# Altium footprint library Package_QFP.PcbLib: 99 footprints (part 1 of 7)
Each footprint in its own frame and in the unit in brackets; x right, y up, seen from the top. Pads: shape width x height; smd on the part's side, far side on the other; paste and mask are expansions set on the pad; w line width, h text height; cw(c..) or ccw(c..) is an arc to the next point about the centre after c.
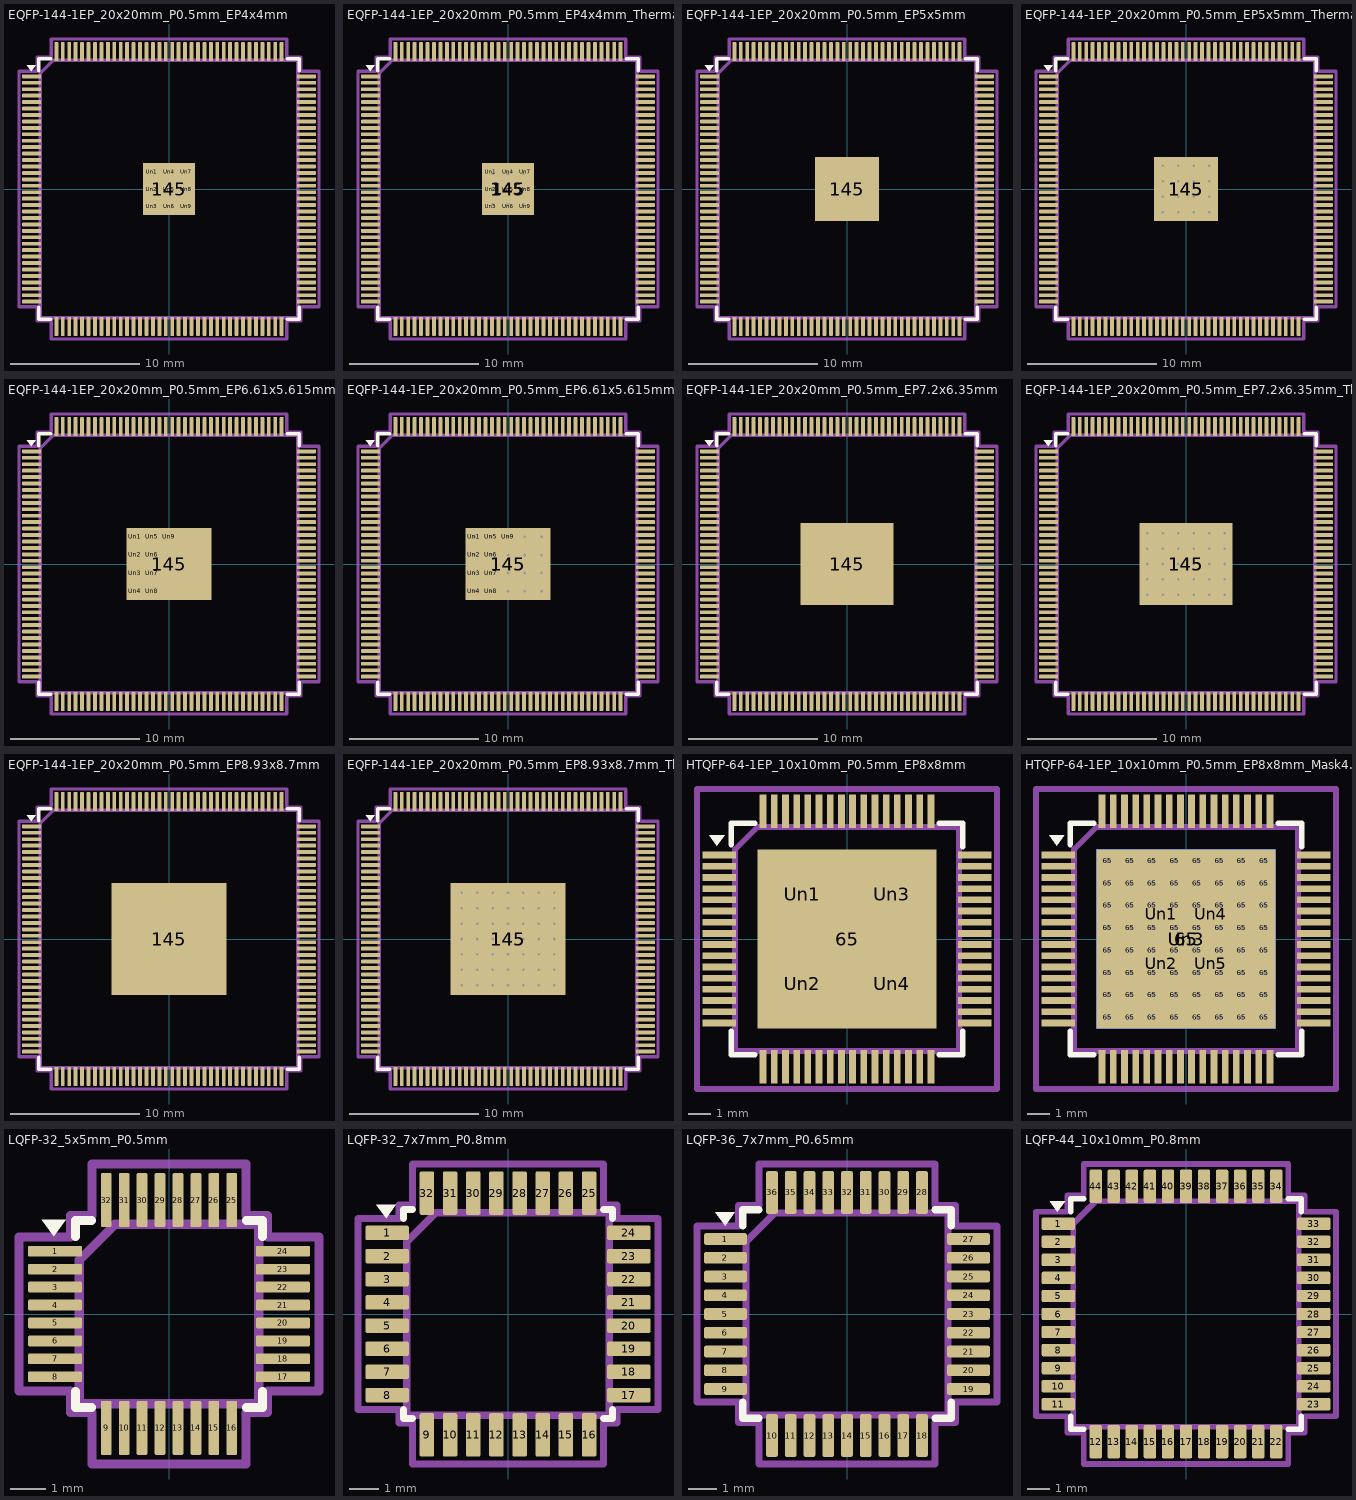
[diagram p0: the footprints below, top view; thin cyan lines are the x and y axes]

## EQFP-144-1EP_20x20mm_P0.5mm_EP4x4mm [mm]
pads (154):
  rrect25% 1.475x0.3 smd: 1(-10.663,8.75) 2(-10.663,8.25) 3(-10.663,7.75) 4(-10.663,7.25) 5(-10.663,6.75) 6(-10.663,6.25) 7(-10.663,5.75) 8(-10.663,5.25) 9(-10.663,4.75) 10(-10.663,4.25) 11(-10.663,3.75) 12(-10.663,3.25) 13(-10.663,2.75) 14(-10.663,2.25) 15(-10.663,1.75) 16(-10.663,1.25) 17(-10.663,0.75) 18(-10.663,0.25) 19(-10.663,-0.25) 20(-10.663,-0.75) 21(-10.663,-1.25) 22(-10.663,-1.75) 23(-10.663,-2.25) 24(-10.663,-2.75) 25(-10.663,-3.25) 26(-10.663,-3.75) 27(-10.663,-4.25) 28(-10.663,-4.75) 29(-10.663,-5.25) 30(-10.663,-5.75) 31(-10.663,-6.25) 32(-10.663,-6.75) 33(-10.663,-7.25) 34(-10.663,-7.75) 35(-10.663,-8.25) 36(-10.663,-8.75) 73(10.663,-8.75) 74(10.663,-8.25) 75(10.663,-7.75) 76(10.663,-7.25) 77(10.663,-6.75) 78(10.663,-6.25) 79(10.663,-5.75) 80(10.663,-5.25) 81(10.663,-4.75) 82(10.663,-4.25) 83(10.663,-3.75) 84(10.663,-3.25) 85(10.663,-2.75) 86(10.663,-2.25) 87(10.663,-1.75) 88(10.663,-1.25) 89(10.663,-0.75) 90(10.663,-0.25) 91(10.663,0.25) 92(10.663,0.75) 93(10.663,1.25) 94(10.663,1.75) 95(10.663,2.25) 96(10.663,2.75) 97(10.663,3.25) 98(10.663,3.75) 99(10.663,4.25) 100(10.663,4.75) 101(10.663,5.25) 102(10.663,5.75) 103(10.663,6.25) 104(10.663,6.75) 105(10.663,7.25) 106(10.663,7.75) 107(10.663,8.25) 108(10.663,8.75)
  rrect25% 0.3x1.475 smd: 37(-8.75,-10.663) 38(-8.25,-10.663) 39(-7.75,-10.663) 40(-7.25,-10.663) 41(-6.75,-10.663) 42(-6.25,-10.663) 43(-5.75,-10.663) 44(-5.25,-10.663) 45(-4.75,-10.663) 46(-4.25,-10.663) 47(-3.75,-10.663) 48(-3.25,-10.663) 49(-2.75,-10.663) 50(-2.25,-10.663) 51(-1.75,-10.663) 52(-1.25,-10.663) 53(-0.75,-10.663) 54(-0.25,-10.663) 55(0.25,-10.663) 56(0.75,-10.663) 57(1.25,-10.663) 58(1.75,-10.663) 59(2.25,-10.663) 60(2.75,-10.663) 61(3.25,-10.663) 62(3.75,-10.663) 63(4.25,-10.663) 64(4.75,-10.663) 65(5.25,-10.663) 66(5.75,-10.663) 67(6.25,-10.663) 68(6.75,-10.663) 69(7.25,-10.663) 70(7.75,-10.663) 71(8.25,-10.663) 72(8.75,-10.663) 109(8.75,10.663) 110(8.25,10.663) 111(7.75,10.663) 112(7.25,10.663) 113(6.75,10.663) 114(6.25,10.663) 115(5.75,10.663) 116(5.25,10.663) 117(4.75,10.663) 118(4.25,10.663) 119(3.75,10.663) 120(3.25,10.663) 121(2.75,10.663) 122(2.25,10.663) 123(1.75,10.663) 124(1.25,10.663) 125(0.75,10.663) 126(0.25,10.663) 127(-0.25,10.663) 128(-0.75,10.663) 129(-1.25,10.663) 130(-1.75,10.663) 131(-2.25,10.663) 132(-2.75,10.663) 133(-3.25,10.663) 134(-3.75,10.663) 135(-4.25,10.663) 136(-4.75,10.663) 137(-5.25,10.663) 138(-5.75,10.663) 139(-6.25,10.663) 140(-6.75,10.663) 141(-7.25,10.663) 142(-7.75,10.663) 143(-8.25,10.663) 144(-8.75,10.663)
  rect 4x4 smd: 145(0,0)
  rrect23% 1.07x1.07 on Top Paste: Un1(-1.33,1.33) Un2(-1.33,0) Un3(-1.33,-1.33) Un4(0,1.33) Un5(0,0) Un6(0,-1.33) Un7(1.33,1.33) Un8(1.33,0) Un9(1.33,-1.33)
F.SilkS:
  region: -10.7,9.16 -11.04,9.63 -10.36,9.63
  lines w0.254: -10.11,-9.16 -10.11,-10.11 -9.16,-10.11 ; -10.11,9.16 -10.11,10.11 -9.16,10.11 ; 9.16,-10.11 10.11,-10.11 10.11,-9.16 ; 9.16,10.11 10.11,10.11 10.11,9.16
Top Assembly:
  lines w0.254: -10,-10 -10,9 -9,10 10,10 10,-10 -10,-10
  text "'.Designator'" at -4.047,-0.84 h1
Top Courtyard:
  lines w0.254: -11.65,-9.15 -11.65,9.15 -10.25,9.15 -10.25,10.25 -9.15,10.25 -9.15,11.65 9.15,11.65 9.15,10.25 10.25,10.25 10.25,9.15 11.65,9.15 11.65,-9.15 10.25,-9.15 10.25,-10.25 9.15,-10.25 9.15,-11.65 -9.15,-11.65 -9.15,-10.25 -10.25,-10.25 -10.25,-9.15 -11.65,-9.15
Top Designator:
  text ".Designator" at -7.618,-0.508 h1.52

## EQFP-144-1EP_20x20mm_P0.5mm_EP4x4mm_ThermalVias [mm]
pads (164):
  rrect25% 1.475x0.3 smd: 1(-10.663,8.75) 2(-10.663,8.25) 3(-10.663,7.75) 4(-10.663,7.25) 5(-10.663,6.75) 6(-10.663,6.25) 7(-10.663,5.75) 8(-10.663,5.25) 9(-10.663,4.75) 10(-10.663,4.25) 11(-10.663,3.75) 12(-10.663,3.25) 13(-10.663,2.75) 14(-10.663,2.25) 15(-10.663,1.75) 16(-10.663,1.25) 17(-10.663,0.75) 18(-10.663,0.25) 19(-10.663,-0.25) 20(-10.663,-0.75) 21(-10.663,-1.25) 22(-10.663,-1.75) 23(-10.663,-2.25) 24(-10.663,-2.75) 25(-10.663,-3.25) 26(-10.663,-3.75) 27(-10.663,-4.25) 28(-10.663,-4.75) 29(-10.663,-5.25) 30(-10.663,-5.75) 31(-10.663,-6.25) 32(-10.663,-6.75) 33(-10.663,-7.25) 34(-10.663,-7.75) 35(-10.663,-8.25) 36(-10.663,-8.75) 73(10.663,-8.75) 74(10.663,-8.25) 75(10.663,-7.75) 76(10.663,-7.25) 77(10.663,-6.75) 78(10.663,-6.25) 79(10.663,-5.75) 80(10.663,-5.25) 81(10.663,-4.75) 82(10.663,-4.25) 83(10.663,-3.75) 84(10.663,-3.25) 85(10.663,-2.75) 86(10.663,-2.25) 87(10.663,-1.75) 88(10.663,-1.25) 89(10.663,-0.75) 90(10.663,-0.25) 91(10.663,0.25) 92(10.663,0.75) 93(10.663,1.25) 94(10.663,1.75) 95(10.663,2.25) 96(10.663,2.75) 97(10.663,3.25) 98(10.663,3.75) 99(10.663,4.25) 100(10.663,4.75) 101(10.663,5.25) 102(10.663,5.75) 103(10.663,6.25) 104(10.663,6.75) 105(10.663,7.25) 106(10.663,7.75) 107(10.663,8.25) 108(10.663,8.75)
  rrect25% 0.3x1.475 smd: 37(-8.75,-10.663) 38(-8.25,-10.663) 39(-7.75,-10.663) 40(-7.25,-10.663) 41(-6.75,-10.663) 42(-6.25,-10.663) 43(-5.75,-10.663) 44(-5.25,-10.663) 45(-4.75,-10.663) 46(-4.25,-10.663) 47(-3.75,-10.663) 48(-3.25,-10.663) 49(-2.75,-10.663) 50(-2.25,-10.663) 51(-1.75,-10.663) 52(-1.25,-10.663) 53(-0.75,-10.663) 54(-0.25,-10.663) 55(0.25,-10.663) 56(0.75,-10.663) 57(1.25,-10.663) 58(1.75,-10.663) 59(2.25,-10.663) 60(2.75,-10.663) 61(3.25,-10.663) 62(3.75,-10.663) 63(4.25,-10.663) 64(4.75,-10.663) 65(5.25,-10.663) 66(5.75,-10.663) 67(6.25,-10.663) 68(6.75,-10.663) 69(7.25,-10.663) 70(7.75,-10.663) 71(8.25,-10.663) 72(8.75,-10.663) 109(8.75,10.663) 110(8.25,10.663) 111(7.75,10.663) 112(7.25,10.663) 113(6.75,10.663) 114(6.25,10.663) 115(5.75,10.663) 116(5.25,10.663) 117(4.75,10.663) 118(4.25,10.663) 119(3.75,10.663) 120(3.25,10.663) 121(2.75,10.663) 122(2.25,10.663) 123(1.75,10.663) 124(1.25,10.663) 125(0.75,10.663) 126(0.25,10.663) 127(-0.25,10.663) 128(-0.75,10.663) 129(-1.25,10.663) 130(-1.75,10.663) 131(-2.25,10.663) 132(-2.75,10.663) 133(-3.25,10.663) 134(-3.75,10.663) 135(-4.25,10.663) 136(-4.75,10.663) 137(-5.25,10.663) 138(-5.75,10.663) 139(-6.25,10.663) 140(-6.75,10.663) 141(-7.25,10.663) 142(-7.75,10.663) 143(-8.25,10.663) 144(-8.75,10.663)
  round 0.5 hole 0.2: 145(-1.2,-1.2) 145(-1.2,0) 145(-1.2,1.2) 145(0,-1.2) 145(0,0) 145(0,1.2) 145(1.2,-1.2) 145(1.2,0) 145(1.2,1.2)
  rect 4x4 smd: 145(0,0)
  rect 2.9x2.9 smd far side: 145(0,0)
  rrect23% 1.07x1.07 on Top Paste: Un1(-1.33,1.33) Un2(-1.33,0) Un3(-1.33,-1.33) Un4(0,1.33) Un5(0,0) Un6(0,-1.33) Un7(1.33,1.33) Un8(1.33,0) Un9(1.33,-1.33)
F.SilkS:
  region: -10.7,9.16 -11.04,9.63 -10.36,9.63
  lines w0.254: -10.11,-9.16 -10.11,-10.11 -9.16,-10.11 ; -10.11,9.16 -10.11,10.11 -9.16,10.11 ; 9.16,-10.11 10.11,-10.11 10.11,-9.16 ; 9.16,10.11 10.11,10.11 10.11,9.16
Top Assembly:
  lines w0.254: -10,-10 10,-10 10,10 -9,10 -10,9 -10,-10
  text "'.Designator'" at -4.047,-0.84 h1
Top Courtyard:
  lines w0.254: -11.65,-9.15 -10.25,-9.15 -10.25,-10.25 -9.15,-10.25 -9.15,-11.65 9.15,-11.65 9.15,-10.25 10.25,-10.25 10.25,-9.15 11.65,-9.15 11.65,9.15 10.25,9.15 10.25,10.25 9.15,10.25 9.15,11.65 -9.15,11.65 -9.15,10.25 -10.25,10.25 -10.25,9.15 -11.65,9.15 -11.65,-9.15
Top Designator:
  text ".Designator" at -7.618,-0.508 h1.52

## EQFP-144-1EP_20x20mm_P0.5mm_EP5x5mm [mm]
pads (161):
  rrect25% 1.475x0.3 smd: 1(-10.663,8.75) 2(-10.663,8.25) 3(-10.663,7.75) 4(-10.663,7.25) 5(-10.663,6.75) 6(-10.663,6.25) 7(-10.663,5.75) 8(-10.663,5.25) 9(-10.663,4.75) 10(-10.663,4.25) 11(-10.663,3.75) 12(-10.663,3.25) 13(-10.663,2.75) 14(-10.663,2.25) 15(-10.663,1.75) 16(-10.663,1.25) 17(-10.663,0.75) 18(-10.663,0.25) 19(-10.663,-0.25) 20(-10.663,-0.75) 21(-10.663,-1.25) 22(-10.663,-1.75) 23(-10.663,-2.25) 24(-10.663,-2.75) 25(-10.663,-3.25) 26(-10.663,-3.75) 27(-10.663,-4.25) 28(-10.663,-4.75) 29(-10.663,-5.25) 30(-10.663,-5.75) 31(-10.663,-6.25) 32(-10.663,-6.75) 33(-10.663,-7.25) 34(-10.663,-7.75) 35(-10.663,-8.25) 36(-10.663,-8.75) 73(10.663,-8.75) 74(10.663,-8.25) 75(10.663,-7.75) 76(10.663,-7.25) 77(10.663,-6.75) 78(10.663,-6.25) 79(10.663,-5.75) 80(10.663,-5.25) 81(10.663,-4.75) 82(10.663,-4.25) 83(10.663,-3.75) 84(10.663,-3.25) 85(10.663,-2.75) 86(10.663,-2.25) 87(10.663,-1.75) 88(10.663,-1.25) 89(10.663,-0.75) 90(10.663,-0.25) 91(10.663,0.25) 92(10.663,0.75) 93(10.663,1.25) 94(10.663,1.75) 95(10.663,2.25) 96(10.663,2.75) 97(10.663,3.25) 98(10.663,3.75) 99(10.663,4.25) 100(10.663,4.75) 101(10.663,5.25) 102(10.663,5.75) 103(10.663,6.25) 104(10.663,6.75) 105(10.663,7.25) 106(10.663,7.75) 107(10.663,8.25) 108(10.663,8.75)
  rrect25% 0.3x1.475 smd: 37(-8.75,-10.663) 38(-8.25,-10.663) 39(-7.75,-10.663) 40(-7.25,-10.663) 41(-6.75,-10.663) 42(-6.25,-10.663) 43(-5.75,-10.663) 44(-5.25,-10.663) 45(-4.75,-10.663) 46(-4.25,-10.663) 47(-3.75,-10.663) 48(-3.25,-10.663) 49(-2.75,-10.663) 50(-2.25,-10.663) 51(-1.75,-10.663) 52(-1.25,-10.663) 53(-0.75,-10.663) 54(-0.25,-10.663) 55(0.25,-10.663) 56(0.75,-10.663) 57(1.25,-10.663) 58(1.75,-10.663) 59(2.25,-10.663) 60(2.75,-10.663) 61(3.25,-10.663) 62(3.75,-10.663) 63(4.25,-10.663) 64(4.75,-10.663) 65(5.25,-10.663) 66(5.75,-10.663) 67(6.25,-10.663) 68(6.75,-10.663) 69(7.25,-10.663) 70(7.75,-10.663) 71(8.25,-10.663) 72(8.75,-10.663) 109(8.75,10.663) 110(8.25,10.663) 111(7.75,10.663) 112(7.25,10.663) 113(6.75,10.663) 114(6.25,10.663) 115(5.75,10.663) 116(5.25,10.663) 117(4.75,10.663) 118(4.25,10.663) 119(3.75,10.663) 120(3.25,10.663) 121(2.75,10.663) 122(2.25,10.663) 123(1.75,10.663) 124(1.25,10.663) 125(0.75,10.663) 126(0.25,10.663) 127(-0.25,10.663) 128(-0.75,10.663) 129(-1.25,10.663) 130(-1.75,10.663) 131(-2.25,10.663) 132(-2.75,10.663) 133(-3.25,10.663) 134(-3.75,10.663) 135(-4.25,10.663) 136(-4.75,10.663) 137(-5.25,10.663) 138(-5.75,10.663) 139(-6.25,10.663) 140(-6.75,10.663) 141(-7.25,10.663) 142(-7.75,10.663) 143(-8.25,10.663) 144(-8.75,10.663)
  rect 5x5 smd: 145(0,0)
  rrect25% 1.01x1.01 on Top Paste: Un1(-1.875,1.875) Un2(-1.875,0.625) Un3(-1.875,-0.625) Un4(-1.875,-1.875) Un5(-0.625,1.875) Un6(-0.625,0.625) Un7(-0.625,-0.625) Un8(-0.625,-1.875) Un9(0.625,1.875) Un10(0.625,0.625) Un11(0.625,-0.625) Un12(0.625,-1.875) Un13(1.875,1.875) Un14(1.875,0.625) Un15(1.875,-0.625) Un16(1.875,-1.875)
F.SilkS:
  region: -10.7,9.16 -11.04,9.63 -10.36,9.63
  lines w0.254: -10.11,-9.16 -10.11,-10.11 -9.16,-10.11 ; -10.11,9.16 -10.11,10.11 -9.16,10.11 ; 9.16,-10.11 10.11,-10.11 10.11,-9.16 ; 9.16,10.11 10.11,10.11 10.11,9.16
Top Assembly:
  lines w0.254: -10,-10 10,-10 10,10 -9,10 -10,9 -10,-10
  text "'.Designator'" at -4.047,-0.84 h1
Top Courtyard:
  lines w0.254: -11.65,-9.15 -10.25,-9.15 -10.25,-10.25 -9.15,-10.25 -9.15,-11.65 9.15,-11.65 9.15,-10.25 10.25,-10.25 10.25,-9.15 11.65,-9.15 11.65,9.15 10.25,9.15 10.25,10.25 9.15,10.25 9.15,11.65 -9.15,11.65 -9.15,10.25 -10.25,10.25 -10.25,9.15 -11.65,9.15 -11.65,-9.15
Top Designator:
  text ".Designator" at -7.618,-0.508 h1.52

## EQFP-144-1EP_20x20mm_P0.5mm_EP5x5mm_ThermalVias [mm]
pads (178):
  rrect25% 1.475x0.3 smd: 1(-10.663,8.75) 2(-10.663,8.25) 3(-10.663,7.75) 4(-10.663,7.25) 5(-10.663,6.75) 6(-10.663,6.25) 7(-10.663,5.75) 8(-10.663,5.25) 9(-10.663,4.75) 10(-10.663,4.25) 11(-10.663,3.75) 12(-10.663,3.25) 13(-10.663,2.75) 14(-10.663,2.25) 15(-10.663,1.75) 16(-10.663,1.25) 17(-10.663,0.75) 18(-10.663,0.25) 19(-10.663,-0.25) 20(-10.663,-0.75) 21(-10.663,-1.25) 22(-10.663,-1.75) 23(-10.663,-2.25) 24(-10.663,-2.75) 25(-10.663,-3.25) 26(-10.663,-3.75) 27(-10.663,-4.25) 28(-10.663,-4.75) 29(-10.663,-5.25) 30(-10.663,-5.75) 31(-10.663,-6.25) 32(-10.663,-6.75) 33(-10.663,-7.25) 34(-10.663,-7.75) 35(-10.663,-8.25) 36(-10.663,-8.75) 73(10.663,-8.75) 74(10.663,-8.25) 75(10.663,-7.75) 76(10.663,-7.25) 77(10.663,-6.75) 78(10.663,-6.25) 79(10.663,-5.75) 80(10.663,-5.25) 81(10.663,-4.75) 82(10.663,-4.25) 83(10.663,-3.75) 84(10.663,-3.25) 85(10.663,-2.75) 86(10.663,-2.25) 87(10.663,-1.75) 88(10.663,-1.25) 89(10.663,-0.75) 90(10.663,-0.25) 91(10.663,0.25) 92(10.663,0.75) 93(10.663,1.25) 94(10.663,1.75) 95(10.663,2.25) 96(10.663,2.75) 97(10.663,3.25) 98(10.663,3.75) 99(10.663,4.25) 100(10.663,4.75) 101(10.663,5.25) 102(10.663,5.75) 103(10.663,6.25) 104(10.663,6.75) 105(10.663,7.25) 106(10.663,7.75) 107(10.663,8.25) 108(10.663,8.75)
  rrect25% 0.3x1.475 smd: 37(-8.75,-10.663) 38(-8.25,-10.663) 39(-7.75,-10.663) 40(-7.25,-10.663) 41(-6.75,-10.663) 42(-6.25,-10.663) 43(-5.75,-10.663) 44(-5.25,-10.663) 45(-4.75,-10.663) 46(-4.25,-10.663) 47(-3.75,-10.663) 48(-3.25,-10.663) 49(-2.75,-10.663) 50(-2.25,-10.663) 51(-1.75,-10.663) 52(-1.25,-10.663) 53(-0.75,-10.663) 54(-0.25,-10.663) 55(0.25,-10.663) 56(0.75,-10.663) 57(1.25,-10.663) 58(1.75,-10.663) 59(2.25,-10.663) 60(2.75,-10.663) 61(3.25,-10.663) 62(3.75,-10.663) 63(4.25,-10.663) 64(4.75,-10.663) 65(5.25,-10.663) 66(5.75,-10.663) 67(6.25,-10.663) 68(6.75,-10.663) 69(7.25,-10.663) 70(7.75,-10.663) 71(8.25,-10.663) 72(8.75,-10.663) 109(8.75,10.663) 110(8.25,10.663) 111(7.75,10.663) 112(7.25,10.663) 113(6.75,10.663) 114(6.25,10.663) 115(5.75,10.663) 116(5.25,10.663) 117(4.75,10.663) 118(4.25,10.663) 119(3.75,10.663) 120(3.25,10.663) 121(2.75,10.663) 122(2.25,10.663) 123(1.75,10.663) 124(1.25,10.663) 125(0.75,10.663) 126(0.25,10.663) 127(-0.25,10.663) 128(-0.75,10.663) 129(-1.25,10.663) 130(-1.75,10.663) 131(-2.25,10.663) 132(-2.75,10.663) 133(-3.25,10.663) 134(-3.75,10.663) 135(-4.25,10.663) 136(-4.75,10.663) 137(-5.25,10.663) 138(-5.75,10.663) 139(-6.25,10.663) 140(-6.75,10.663) 141(-7.25,10.663) 142(-7.75,10.663) 143(-8.25,10.663) 144(-8.75,10.663)
  round 0.5 hole 0.2: 145(-1.8,-1.8) 145(-1.8,-0.6) 145(-1.8,0.6) 145(-1.8,1.8) 145(-0.6,-1.8) 145(-0.6,-0.6) 145(-0.6,0.6) 145(-0.6,1.8) 145(0.6,-1.8) 145(0.6,-0.6) 145(0.6,0.6) 145(0.6,1.8) 145(1.8,-1.8) 145(1.8,-0.6) 145(1.8,0.6) 145(1.8,1.8)
  rect 5x5 smd: 145(0,0)
  rect 4.1x4.1 smd far side: 145(0,0)
  rrect25% 1.01x1.01 on Top Paste: Un1(-1.875,1.875) Un2(-1.875,0.625) Un3(-1.875,-0.625) Un4(-1.875,-1.875) Un5(-0.625,1.875) Un6(-0.625,0.625) Un7(-0.625,-0.625) Un8(-0.625,-1.875) Un9(0.625,1.875) Un10(0.625,0.625) Un11(0.625,-0.625) Un12(0.625,-1.875) Un13(1.875,1.875) Un14(1.875,0.625) Un15(1.875,-0.625) Un16(1.875,-1.875)
F.SilkS:
  region: -10.7,9.16 -11.04,9.63 -10.36,9.63
  lines w0.254: -10.11,-9.16 -10.11,-10.11 -9.16,-10.11 ; -10.11,9.16 -10.11,10.11 -9.16,10.11 ; 9.16,-10.11 10.11,-10.11 10.11,-9.16 ; 9.16,10.11 10.11,10.11 10.11,9.16
Top Assembly:
  lines w0.254: -10,-10 10,-10 10,10 -9,10 -10,9 -10,-10
  text "'.Designator'" at -4.047,-0.84 h1
Top Courtyard:
  lines w0.254: -11.65,-9.15 -10.25,-9.15 -10.25,-10.25 -9.15,-10.25 -9.15,-11.65 9.15,-11.65 9.15,-10.25 10.25,-10.25 10.25,-9.15 11.65,-9.15 11.65,9.15 10.25,9.15 10.25,10.25 9.15,10.25 9.15,11.65 -9.15,11.65 -9.15,10.25 -10.25,10.25 -10.25,9.15 -11.65,9.15 -11.65,-9.15
Top Designator:
  text ".Designator" at -7.618,-0.508 h1.52

## EQFP-144-1EP_20x20mm_P0.5mm_EP6.61x5.615mm [mm]
pads (165):
  rrect25% 1.475x0.3 smd: 1(-10.663,8.75) 2(-10.663,8.25) 3(-10.663,7.75) 4(-10.663,7.25) 5(-10.663,6.75) 6(-10.663,6.25) 7(-10.663,5.75) 8(-10.663,5.25) 9(-10.663,4.75) 10(-10.663,4.25) 11(-10.663,3.75) 12(-10.663,3.25) 13(-10.663,2.75) 14(-10.663,2.25) 15(-10.663,1.75) 16(-10.663,1.25) 17(-10.663,0.75) 18(-10.663,0.25) 19(-10.663,-0.25) 20(-10.663,-0.75) 21(-10.663,-1.25) 22(-10.663,-1.75) 23(-10.663,-2.25) 24(-10.663,-2.75) 25(-10.663,-3.25) 26(-10.663,-3.75) 27(-10.663,-4.25) 28(-10.663,-4.75) 29(-10.663,-5.25) 30(-10.663,-5.75) 31(-10.663,-6.25) 32(-10.663,-6.75) 33(-10.663,-7.25) 34(-10.663,-7.75) 35(-10.663,-8.25) 36(-10.663,-8.75) 73(10.663,-8.75) 74(10.663,-8.25) 75(10.663,-7.75) 76(10.663,-7.25) 77(10.663,-6.75) 78(10.663,-6.25) 79(10.663,-5.75) 80(10.663,-5.25) 81(10.663,-4.75) 82(10.663,-4.25) 83(10.663,-3.75) 84(10.663,-3.25) 85(10.663,-2.75) 86(10.663,-2.25) 87(10.663,-1.75) 88(10.663,-1.25) 89(10.663,-0.75) 90(10.663,-0.25) 91(10.663,0.25) 92(10.663,0.75) 93(10.663,1.25) 94(10.663,1.75) 95(10.663,2.25) 96(10.663,2.75) 97(10.663,3.25) 98(10.663,3.75) 99(10.663,4.25) 100(10.663,4.75) 101(10.663,5.25) 102(10.663,5.75) 103(10.663,6.25) 104(10.663,6.75) 105(10.663,7.25) 106(10.663,7.75) 107(10.663,8.25) 108(10.663,8.75)
  rrect25% 0.3x1.475 smd: 37(-8.75,-10.663) 38(-8.25,-10.663) 39(-7.75,-10.663) 40(-7.25,-10.663) 41(-6.75,-10.663) 42(-6.25,-10.663) 43(-5.75,-10.663) 44(-5.25,-10.663) 45(-4.75,-10.663) 46(-4.25,-10.663) 47(-3.75,-10.663) 48(-3.25,-10.663) 49(-2.75,-10.663) 50(-2.25,-10.663) 51(-1.75,-10.663) 52(-1.25,-10.663) 53(-0.75,-10.663) 54(-0.25,-10.663) 55(0.25,-10.663) 56(0.75,-10.663) 57(1.25,-10.663) 58(1.75,-10.663) 59(2.25,-10.663) 60(2.75,-10.663) 61(3.25,-10.663) 62(3.75,-10.663) 63(4.25,-10.663) 64(4.75,-10.663) 65(5.25,-10.663) 66(5.75,-10.663) 67(6.25,-10.663) 68(6.75,-10.663) 69(7.25,-10.663) 70(7.75,-10.663) 71(8.25,-10.663) 72(8.75,-10.663) 109(8.75,10.663) 110(8.25,10.663) 111(7.75,10.663) 112(7.25,10.663) 113(6.75,10.663) 114(6.25,10.663) 115(5.75,10.663) 116(5.25,10.663) 117(4.75,10.663) 118(4.25,10.663) 119(3.75,10.663) 120(3.25,10.663) 121(2.75,10.663) 122(2.25,10.663) 123(1.75,10.663) 124(1.25,10.663) 125(0.75,10.663) 126(0.25,10.663) 127(-0.25,10.663) 128(-0.75,10.663) 129(-1.25,10.663) 130(-1.75,10.663) 131(-2.25,10.663) 132(-2.75,10.663) 133(-3.25,10.663) 134(-3.75,10.663) 135(-4.25,10.663) 136(-4.75,10.663) 137(-5.25,10.663) 138(-5.75,10.663) 139(-6.25,10.663) 140(-6.75,10.663) 141(-7.25,10.663) 142(-7.75,10.663) 143(-8.25,10.663) 144(-8.75,10.663)
  rect 6.61x5.615 smd: 145(0,0)
  rrect23% 1.07x1.13 on Top Paste: Un1(-2.64,2.1) Un2(-2.64,0.7) Un3(-2.64,-0.7) Un4(-2.64,-2.1) Un5(-1.32,2.1) Un6(-1.32,0.7) Un7(-1.32,-0.7) Un8(-1.32,-2.1) Un9(0,2.1) Un10(0,0.7) Un11(0,-0.7) Un12(0,-2.1) Un13(1.32,2.1) Un14(1.32,0.7) Un15(1.32,-0.7) Un16(1.32,-2.1) Un17(2.64,2.1) Un18(2.64,0.7) Un19(2.64,-0.7) Un20(2.64,-2.1)
F.SilkS:
  region: -10.7,9.16 -11.04,9.63 -10.36,9.63
  lines w0.254: -10.11,-9.16 -10.11,-10.11 -9.16,-10.11 ; -10.11,9.16 -10.11,10.11 -9.16,10.11 ; 9.16,-10.11 10.11,-10.11 10.11,-9.16 ; 9.16,10.11 10.11,10.11 10.11,9.16
Top Assembly:
  lines w0.254: -10,-10 10,-10 10,10 -9,10 -10,9 -10,-10
  text "'.Designator'" at -4.047,-0.84 h1
Top Courtyard:
  lines w0.254: -11.65,-9.15 -10.25,-9.15 -10.25,-10.25 -9.15,-10.25 -9.15,-11.65 9.15,-11.65 9.15,-10.25 10.25,-10.25 10.25,-9.15 11.65,-9.15 11.65,9.15 10.25,9.15 10.25,10.25 9.15,10.25 9.15,11.65 -9.15,11.65 -9.15,10.25 -10.25,10.25 -10.25,9.15 -11.65,9.15 -11.65,-9.15
Top Designator:
  text ".Designator" at -7.618,-0.508 h1.52

## EQFP-144-1EP_20x20mm_P0.5mm_EP6.61x5.615mm_ThermalVias [mm]
pads (186):
  rrect25% 1.475x0.3 smd: 1(-10.663,8.75) 2(-10.663,8.25) 3(-10.663,7.75) 4(-10.663,7.25) 5(-10.663,6.75) 6(-10.663,6.25) 7(-10.663,5.75) 8(-10.663,5.25) 9(-10.663,4.75) 10(-10.663,4.25) 11(-10.663,3.75) 12(-10.663,3.25) 13(-10.663,2.75) 14(-10.663,2.25) 15(-10.663,1.75) 16(-10.663,1.25) 17(-10.663,0.75) 18(-10.663,0.25) 19(-10.663,-0.25) 20(-10.663,-0.75) 21(-10.663,-1.25) 22(-10.663,-1.75) 23(-10.663,-2.25) 24(-10.663,-2.75) 25(-10.663,-3.25) 26(-10.663,-3.75) 27(-10.663,-4.25) 28(-10.663,-4.75) 29(-10.663,-5.25) 30(-10.663,-5.75) 31(-10.663,-6.25) 32(-10.663,-6.75) 33(-10.663,-7.25) 34(-10.663,-7.75) 35(-10.663,-8.25) 36(-10.663,-8.75) 73(10.663,-8.75) 74(10.663,-8.25) 75(10.663,-7.75) 76(10.663,-7.25) 77(10.663,-6.75) 78(10.663,-6.25) 79(10.663,-5.75) 80(10.663,-5.25) 81(10.663,-4.75) 82(10.663,-4.25) 83(10.663,-3.75) 84(10.663,-3.25) 85(10.663,-2.75) 86(10.663,-2.25) 87(10.663,-1.75) 88(10.663,-1.25) 89(10.663,-0.75) 90(10.663,-0.25) 91(10.663,0.25) 92(10.663,0.75) 93(10.663,1.25) 94(10.663,1.75) 95(10.663,2.25) 96(10.663,2.75) 97(10.663,3.25) 98(10.663,3.75) 99(10.663,4.25) 100(10.663,4.75) 101(10.663,5.25) 102(10.663,5.75) 103(10.663,6.25) 104(10.663,6.75) 105(10.663,7.25) 106(10.663,7.75) 107(10.663,8.25) 108(10.663,8.75)
  rrect25% 0.3x1.475 smd: 37(-8.75,-10.663) 38(-8.25,-10.663) 39(-7.75,-10.663) 40(-7.25,-10.663) 41(-6.75,-10.663) 42(-6.25,-10.663) 43(-5.75,-10.663) 44(-5.25,-10.663) 45(-4.75,-10.663) 46(-4.25,-10.663) 47(-3.75,-10.663) 48(-3.25,-10.663) 49(-2.75,-10.663) 50(-2.25,-10.663) 51(-1.75,-10.663) 52(-1.25,-10.663) 53(-0.75,-10.663) 54(-0.25,-10.663) 55(0.25,-10.663) 56(0.75,-10.663) 57(1.25,-10.663) 58(1.75,-10.663) 59(2.25,-10.663) 60(2.75,-10.663) 61(3.25,-10.663) 62(3.75,-10.663) 63(4.25,-10.663) 64(4.75,-10.663) 65(5.25,-10.663) 66(5.75,-10.663) 67(6.25,-10.663) 68(6.75,-10.663) 69(7.25,-10.663) 70(7.75,-10.663) 71(8.25,-10.663) 72(8.75,-10.663) 109(8.75,10.663) 110(8.25,10.663) 111(7.75,10.663) 112(7.25,10.663) 113(6.75,10.663) 114(6.25,10.663) 115(5.75,10.663) 116(5.25,10.663) 117(4.75,10.663) 118(4.25,10.663) 119(3.75,10.663) 120(3.25,10.663) 121(2.75,10.663) 122(2.25,10.663) 123(1.75,10.663) 124(1.25,10.663) 125(0.75,10.663) 126(0.25,10.663) 127(-0.25,10.663) 128(-0.75,10.663) 129(-1.25,10.663) 130(-1.75,10.663) 131(-2.25,10.663) 132(-2.75,10.663) 133(-3.25,10.663) 134(-3.75,10.663) 135(-4.25,10.663) 136(-4.75,10.663) 137(-5.25,10.663) 138(-5.75,10.663) 139(-6.25,10.663) 140(-6.75,10.663) 141(-7.25,10.663) 142(-7.75,10.663) 143(-8.25,10.663) 144(-8.75,10.663)
  round 0.5 hole 0.2: 145(-2.6,-2.1) 145(-2.6,-0.7) 145(-2.6,0.7) 145(-2.6,2.1) 145(-1.3,-2.1) 145(-1.3,-0.7) 145(-1.3,0.7) 145(-1.3,2.1) 145(0,-2.1) 145(0,-0.7) 145(0,0.7) 145(0,2.1) 145(1.3,-2.1) 145(1.3,-0.7) 145(1.3,0.7) 145(1.3,2.1) 145(2.6,-2.1) 145(2.6,-0.7) 145(2.6,0.7) 145(2.6,2.1)
  rect 6.61x5.615 smd: 145(0,0)
  rect 5.7x4.7 smd far side: 145(0,0)
  rrect23% 1.07x1.13 on Top Paste: Un1(-2.64,2.1) Un2(-2.64,0.7) Un3(-2.64,-0.7) Un4(-2.64,-2.1) Un5(-1.32,2.1) Un6(-1.32,0.7) Un7(-1.32,-0.7) Un8(-1.32,-2.1) Un9(0,2.1) Un10(0,0.7) Un11(0,-0.7) Un12(0,-2.1) Un13(1.32,2.1) Un14(1.32,0.7) Un15(1.32,-0.7) Un16(1.32,-2.1) Un17(2.64,2.1) Un18(2.64,0.7) Un19(2.64,-0.7) Un20(2.64,-2.1)
F.SilkS:
  region: -10.7,9.16 -11.04,9.63 -10.36,9.63
  lines w0.254: -10.11,-9.16 -10.11,-10.11 -9.16,-10.11 ; -10.11,9.16 -10.11,10.11 -9.16,10.11 ; 9.16,-10.11 10.11,-10.11 10.11,-9.16 ; 9.16,10.11 10.11,10.11 10.11,9.16
Top Assembly:
  lines w0.254: -10,-10 10,-10 10,10 -9,10 -10,9 -10,-10
  text "'.Designator'" at -4.047,-0.84 h1
Top Courtyard:
  lines w0.254: -11.65,-9.15 -10.25,-9.15 -10.25,-10.25 -9.15,-10.25 -9.15,-11.65 9.15,-11.65 9.15,-10.25 10.25,-10.25 10.25,-9.15 11.65,-9.15 11.65,9.15 10.25,9.15 10.25,10.25 9.15,10.25 9.15,11.65 -9.15,11.65 -9.15,10.25 -10.25,10.25 -10.25,9.15 -11.65,9.15 -11.65,-9.15
Top Designator:
  text ".Designator" at -7.618,-0.508 h1.52

## EQFP-144-1EP_20x20mm_P0.5mm_EP7.2x6.35mm [mm]
pads (175):
  rrect25% 1.475x0.3 smd: 1(-10.663,8.75) 2(-10.663,8.25) 3(-10.663,7.75) 4(-10.663,7.25) 5(-10.663,6.75) 6(-10.663,6.25) 7(-10.663,5.75) 8(-10.663,5.25) 9(-10.663,4.75) 10(-10.663,4.25) 11(-10.663,3.75) 12(-10.663,3.25) 13(-10.663,2.75) 14(-10.663,2.25) 15(-10.663,1.75) 16(-10.663,1.25) 17(-10.663,0.75) 18(-10.663,0.25) 19(-10.663,-0.25) 20(-10.663,-0.75) 21(-10.663,-1.25) 22(-10.663,-1.75) 23(-10.663,-2.25) 24(-10.663,-2.75) 25(-10.663,-3.25) 26(-10.663,-3.75) 27(-10.663,-4.25) 28(-10.663,-4.75) 29(-10.663,-5.25) 30(-10.663,-5.75) 31(-10.663,-6.25) 32(-10.663,-6.75) 33(-10.663,-7.25) 34(-10.663,-7.75) 35(-10.663,-8.25) 36(-10.663,-8.75) 73(10.663,-8.75) 74(10.663,-8.25) 75(10.663,-7.75) 76(10.663,-7.25) 77(10.663,-6.75) 78(10.663,-6.25) 79(10.663,-5.75) 80(10.663,-5.25) 81(10.663,-4.75) 82(10.663,-4.25) 83(10.663,-3.75) 84(10.663,-3.25) 85(10.663,-2.75) 86(10.663,-2.25) 87(10.663,-1.75) 88(10.663,-1.25) 89(10.663,-0.75) 90(10.663,-0.25) 91(10.663,0.25) 92(10.663,0.75) 93(10.663,1.25) 94(10.663,1.75) 95(10.663,2.25) 96(10.663,2.75) 97(10.663,3.25) 98(10.663,3.75) 99(10.663,4.25) 100(10.663,4.75) 101(10.663,5.25) 102(10.663,5.75) 103(10.663,6.25) 104(10.663,6.75) 105(10.663,7.25) 106(10.663,7.75) 107(10.663,8.25) 108(10.663,8.75)
  rrect25% 0.3x1.475 smd: 37(-8.75,-10.663) 38(-8.25,-10.663) 39(-7.75,-10.663) 40(-7.25,-10.663) 41(-6.75,-10.663) 42(-6.25,-10.663) 43(-5.75,-10.663) 44(-5.25,-10.663) 45(-4.75,-10.663) 46(-4.25,-10.663) 47(-3.75,-10.663) 48(-3.25,-10.663) 49(-2.75,-10.663) 50(-2.25,-10.663) 51(-1.75,-10.663) 52(-1.25,-10.663) 53(-0.75,-10.663) 54(-0.25,-10.663) 55(0.25,-10.663) 56(0.75,-10.663) 57(1.25,-10.663) 58(1.75,-10.663) 59(2.25,-10.663) 60(2.75,-10.663) 61(3.25,-10.663) 62(3.75,-10.663) 63(4.25,-10.663) 64(4.75,-10.663) 65(5.25,-10.663) 66(5.75,-10.663) 67(6.25,-10.663) 68(6.75,-10.663) 69(7.25,-10.663) 70(7.75,-10.663) 71(8.25,-10.663) 72(8.75,-10.663) 109(8.75,10.663) 110(8.25,10.663) 111(7.75,10.663) 112(7.25,10.663) 113(6.75,10.663) 114(6.25,10.663) 115(5.75,10.663) 116(5.25,10.663) 117(4.75,10.663) 118(4.25,10.663) 119(3.75,10.663) 120(3.25,10.663) 121(2.75,10.663) 122(2.25,10.663) 123(1.75,10.663) 124(1.25,10.663) 125(0.75,10.663) 126(0.25,10.663) 127(-0.25,10.663) 128(-0.75,10.663) 129(-1.25,10.663) 130(-1.75,10.663) 131(-2.25,10.663) 132(-2.75,10.663) 133(-3.25,10.663) 134(-3.75,10.663) 135(-4.25,10.663) 136(-4.75,10.663) 137(-5.25,10.663) 138(-5.75,10.663) 139(-6.25,10.663) 140(-6.75,10.663) 141(-7.25,10.663) 142(-7.75,10.663) 143(-8.25,10.663) 144(-8.75,10.663)
  rect 7.2x6.35 smd: 145(0,0)
  rrect25% 0.97x1.02 on Top Paste: Un1(-3,2.54) Un2(-3,1.27) Un3(-3,0) Un4(-3,-1.27) Un5(-3,-2.54) Un6(-1.8,2.54) Un7(-1.8,1.27) Un8(-1.8,0) Un9(-1.8,-1.27) Un10(-1.8,-2.54) Un11(-0.6,2.54) Un12(-0.6,1.27) Un13(-0.6,0) Un14(-0.6,-1.27) Un15(-0.6,-2.54) Un16(0.6,2.54) Un17(0.6,1.27) Un18(0.6,0) Un19(0.6,-1.27) Un20(0.6,-2.54) Un21(1.8,2.54) Un22(1.8,1.27) Un23(1.8,0) Un24(1.8,-1.27) Un25(1.8,-2.54) Un26(3,2.54) Un27(3,1.27) Un28(3,0) Un29(3,-1.27) Un30(3,-2.54)
F.SilkS:
  region: -10.7,9.16 -11.04,9.63 -10.36,9.63
  lines w0.254: -10.11,-9.16 -10.11,-10.11 -9.16,-10.11 ; -10.11,9.16 -10.11,10.11 -9.16,10.11 ; 9.16,-10.11 10.11,-10.11 10.11,-9.16 ; 9.16,10.11 10.11,10.11 10.11,9.16
Top Assembly:
  lines w0.254: -10,-10 10,-10 10,10 -9,10 -10,9 -10,-10
  text "'.Designator'" at -4.047,-0.84 h1
Top Courtyard:
  lines w0.254: -11.65,-9.15 -10.25,-9.15 -10.25,-10.25 -9.15,-10.25 -9.15,-11.65 9.15,-11.65 9.15,-10.25 10.25,-10.25 10.25,-9.15 11.65,-9.15 11.65,9.15 10.25,9.15 10.25,10.25 9.15,10.25 9.15,11.65 -9.15,11.65 -9.15,10.25 -10.25,10.25 -10.25,9.15 -11.65,9.15 -11.65,-9.15
Top Designator:
  text ".Designator" at -7.618,-0.508 h1.52

## EQFP-144-1EP_20x20mm_P0.5mm_EP7.2x6.35mm_ThermalVias [mm]
pads (206):
  rrect25% 1.475x0.3 smd: 1(-10.663,8.75) 2(-10.663,8.25) 3(-10.663,7.75) 4(-10.663,7.25) 5(-10.663,6.75) 6(-10.663,6.25) 7(-10.663,5.75) 8(-10.663,5.25) 9(-10.663,4.75) 10(-10.663,4.25) 11(-10.663,3.75) 12(-10.663,3.25) 13(-10.663,2.75) 14(-10.663,2.25) 15(-10.663,1.75) 16(-10.663,1.25) 17(-10.663,0.75) 18(-10.663,0.25) 19(-10.663,-0.25) 20(-10.663,-0.75) 21(-10.663,-1.25) 22(-10.663,-1.75) 23(-10.663,-2.25) 24(-10.663,-2.75) 25(-10.663,-3.25) 26(-10.663,-3.75) 27(-10.663,-4.25) 28(-10.663,-4.75) 29(-10.663,-5.25) 30(-10.663,-5.75) 31(-10.663,-6.25) 32(-10.663,-6.75) 33(-10.663,-7.25) 34(-10.663,-7.75) 35(-10.663,-8.25) 36(-10.663,-8.75) 73(10.663,-8.75) 74(10.663,-8.25) 75(10.663,-7.75) 76(10.663,-7.25) 77(10.663,-6.75) 78(10.663,-6.25) 79(10.663,-5.75) 80(10.663,-5.25) 81(10.663,-4.75) 82(10.663,-4.25) 83(10.663,-3.75) 84(10.663,-3.25) 85(10.663,-2.75) 86(10.663,-2.25) 87(10.663,-1.75) 88(10.663,-1.25) 89(10.663,-0.75) 90(10.663,-0.25) 91(10.663,0.25) 92(10.663,0.75) 93(10.663,1.25) 94(10.663,1.75) 95(10.663,2.25) 96(10.663,2.75) 97(10.663,3.25) 98(10.663,3.75) 99(10.663,4.25) 100(10.663,4.75) 101(10.663,5.25) 102(10.663,5.75) 103(10.663,6.25) 104(10.663,6.75) 105(10.663,7.25) 106(10.663,7.75) 107(10.663,8.25) 108(10.663,8.75)
  rrect25% 0.3x1.475 smd: 37(-8.75,-10.663) 38(-8.25,-10.663) 39(-7.75,-10.663) 40(-7.25,-10.663) 41(-6.75,-10.663) 42(-6.25,-10.663) 43(-5.75,-10.663) 44(-5.25,-10.663) 45(-4.75,-10.663) 46(-4.25,-10.663) 47(-3.75,-10.663) 48(-3.25,-10.663) 49(-2.75,-10.663) 50(-2.25,-10.663) 51(-1.75,-10.663) 52(-1.25,-10.663) 53(-0.75,-10.663) 54(-0.25,-10.663) 55(0.25,-10.663) 56(0.75,-10.663) 57(1.25,-10.663) 58(1.75,-10.663) 59(2.25,-10.663) 60(2.75,-10.663) 61(3.25,-10.663) 62(3.75,-10.663) 63(4.25,-10.663) 64(4.75,-10.663) 65(5.25,-10.663) 66(5.75,-10.663) 67(6.25,-10.663) 68(6.75,-10.663) 69(7.25,-10.663) 70(7.75,-10.663) 71(8.25,-10.663) 72(8.75,-10.663) 109(8.75,10.663) 110(8.25,10.663) 111(7.75,10.663) 112(7.25,10.663) 113(6.75,10.663) 114(6.25,10.663) 115(5.75,10.663) 116(5.25,10.663) 117(4.75,10.663) 118(4.25,10.663) 119(3.75,10.663) 120(3.25,10.663) 121(2.75,10.663) 122(2.25,10.663) 123(1.75,10.663) 124(1.25,10.663) 125(0.75,10.663) 126(0.25,10.663) 127(-0.25,10.663) 128(-0.75,10.663) 129(-1.25,10.663) 130(-1.75,10.663) 131(-2.25,10.663) 132(-2.75,10.663) 133(-3.25,10.663) 134(-3.75,10.663) 135(-4.25,10.663) 136(-4.75,10.663) 137(-5.25,10.663) 138(-5.75,10.663) 139(-6.25,10.663) 140(-6.75,10.663) 141(-7.25,10.663) 142(-7.75,10.663) 143(-8.25,10.663) 144(-8.75,10.663)
  round 0.5 hole 0.2: 145(-3,-2.4) 145(-3,-1.2) 145(-3,0) 145(-3,1.2) 145(-3,2.4) 145(-1.8,-2.4) 145(-1.8,-1.2) 145(-1.8,0) 145(-1.8,1.2) 145(-1.8,2.4) 145(-0.6,-2.4) 145(-0.6,-1.2) 145(-0.6,0) 145(-0.6,1.2) 145(-0.6,2.4) 145(0.6,-2.4) 145(0.6,-1.2) 145(0.6,0) 145(0.6,1.2) 145(0.6,2.4) 145(1.8,-2.4) 145(1.8,-1.2) 145(1.8,0) 145(1.8,1.2) 145(1.8,2.4) 145(3,-2.4) 145(3,-1.2) 145(3,0) 145(3,1.2) 145(3,2.4)
  rect 7.2x6.35 smd: 145(0,0)
  rect 6.5x5.3 smd far side: 145(0,0)
  rrect25% 0.97x1.02 on Top Paste: Un1(-3,2.54) Un2(-3,1.27) Un3(-3,0) Un4(-3,-1.27) Un5(-3,-2.54) Un6(-1.8,2.54) Un7(-1.8,1.27) Un8(-1.8,0) Un9(-1.8,-1.27) Un10(-1.8,-2.54) Un11(-0.6,2.54) Un12(-0.6,1.27) Un13(-0.6,0) Un14(-0.6,-1.27) Un15(-0.6,-2.54) Un16(0.6,2.54) Un17(0.6,1.27) Un18(0.6,0) Un19(0.6,-1.27) Un20(0.6,-2.54) Un21(1.8,2.54) Un22(1.8,1.27) Un23(1.8,0) Un24(1.8,-1.27) Un25(1.8,-2.54) Un26(3,2.54) Un27(3,1.27) Un28(3,0) Un29(3,-1.27) Un30(3,-2.54)
F.SilkS:
  region: -10.7,9.16 -11.04,9.63 -10.36,9.63
  lines w0.254: -10.11,-9.16 -10.11,-10.11 -9.16,-10.11 ; -10.11,9.16 -10.11,10.11 -9.16,10.11 ; 9.16,-10.11 10.11,-10.11 10.11,-9.16 ; 9.16,10.11 10.11,10.11 10.11,9.16
Top Assembly:
  lines w0.254: -10,-10 10,-10 10,10 -9,10 -10,9 -10,-10
  text "'.Designator'" at -4.047,-0.84 h1
Top Courtyard:
  lines w0.254: -11.65,-9.15 -10.25,-9.15 -10.25,-10.25 -9.15,-10.25 -9.15,-11.65 9.15,-11.65 9.15,-10.25 10.25,-10.25 10.25,-9.15 11.65,-9.15 11.65,9.15 10.25,9.15 10.25,10.25 9.15,10.25 9.15,11.65 -9.15,11.65 -9.15,10.25 -10.25,10.25 -10.25,9.15 -11.65,9.15 -11.65,-9.15
Top Designator:
  text ".Designator" at -7.618,-0.508 h1.52

## EQFP-144-1EP_20x20mm_P0.5mm_EP8.93x8.7mm [mm]
pads (194):
  rrect25% 1.475x0.3 smd: 1(-10.663,8.75) 2(-10.663,8.25) 3(-10.663,7.75) 4(-10.663,7.25) 5(-10.663,6.75) 6(-10.663,6.25) 7(-10.663,5.75) 8(-10.663,5.25) 9(-10.663,4.75) 10(-10.663,4.25) 11(-10.663,3.75) 12(-10.663,3.25) 13(-10.663,2.75) 14(-10.663,2.25) 15(-10.663,1.75) 16(-10.663,1.25) 17(-10.663,0.75) 18(-10.663,0.25) 19(-10.663,-0.25) 20(-10.663,-0.75) 21(-10.663,-1.25) 22(-10.663,-1.75) 23(-10.663,-2.25) 24(-10.663,-2.75) 25(-10.663,-3.25) 26(-10.663,-3.75) 27(-10.663,-4.25) 28(-10.663,-4.75) 29(-10.663,-5.25) 30(-10.663,-5.75) 31(-10.663,-6.25) 32(-10.663,-6.75) 33(-10.663,-7.25) 34(-10.663,-7.75) 35(-10.663,-8.25) 36(-10.663,-8.75) 73(10.663,-8.75) 74(10.663,-8.25) 75(10.663,-7.75) 76(10.663,-7.25) 77(10.663,-6.75) 78(10.663,-6.25) 79(10.663,-5.75) 80(10.663,-5.25) 81(10.663,-4.75) 82(10.663,-4.25) 83(10.663,-3.75) 84(10.663,-3.25) 85(10.663,-2.75) 86(10.663,-2.25) 87(10.663,-1.75) 88(10.663,-1.25) 89(10.663,-0.75) 90(10.663,-0.25) 91(10.663,0.25) 92(10.663,0.75) 93(10.663,1.25) 94(10.663,1.75) 95(10.663,2.25) 96(10.663,2.75) 97(10.663,3.25) 98(10.663,3.75) 99(10.663,4.25) 100(10.663,4.75) 101(10.663,5.25) 102(10.663,5.75) 103(10.663,6.25) 104(10.663,6.75) 105(10.663,7.25) 106(10.663,7.75) 107(10.663,8.25) 108(10.663,8.75)
  rrect25% 0.3x1.475 smd: 37(-8.75,-10.663) 38(-8.25,-10.663) 39(-7.75,-10.663) 40(-7.25,-10.663) 41(-6.75,-10.663) 42(-6.25,-10.663) 43(-5.75,-10.663) 44(-5.25,-10.663) 45(-4.75,-10.663) 46(-4.25,-10.663) 47(-3.75,-10.663) 48(-3.25,-10.663) 49(-2.75,-10.663) 50(-2.25,-10.663) 51(-1.75,-10.663) 52(-1.25,-10.663) 53(-0.75,-10.663) 54(-0.25,-10.663) 55(0.25,-10.663) 56(0.75,-10.663) 57(1.25,-10.663) 58(1.75,-10.663) 59(2.25,-10.663) 60(2.75,-10.663) 61(3.25,-10.663) 62(3.75,-10.663) 63(4.25,-10.663) 64(4.75,-10.663) 65(5.25,-10.663) 66(5.75,-10.663) 67(6.25,-10.663) 68(6.75,-10.663) 69(7.25,-10.663) 70(7.75,-10.663) 71(8.25,-10.663) 72(8.75,-10.663) 109(8.75,10.663) 110(8.25,10.663) 111(7.75,10.663) 112(7.25,10.663) 113(6.75,10.663) 114(6.25,10.663) 115(5.75,10.663) 116(5.25,10.663) 117(4.75,10.663) 118(4.25,10.663) 119(3.75,10.663) 120(3.25,10.663) 121(2.75,10.663) 122(2.25,10.663) 123(1.75,10.663) 124(1.25,10.663) 125(0.75,10.663) 126(0.25,10.663) 127(-0.25,10.663) 128(-0.75,10.663) 129(-1.25,10.663) 130(-1.75,10.663) 131(-2.25,10.663) 132(-2.75,10.663) 133(-3.25,10.663) 134(-3.75,10.663) 135(-4.25,10.663) 136(-4.75,10.663) 137(-5.25,10.663) 138(-5.75,10.663) 139(-6.25,10.663) 140(-6.75,10.663) 141(-7.25,10.663) 142(-7.75,10.663) 143(-8.25,10.663) 144(-8.75,10.663)
  rect 8.93x8.7 smd: 145(0,0)
  rrect25% 1.03x1 on Top Paste: Un1(-3.84,3.72) Un2(-3.84,2.48) Un3(-3.84,1.24) Un4(-3.84,0) Un5(-3.84,-1.24) Un6(-3.84,-2.48) Un7(-3.84,-3.72) Un8(-2.56,3.72) Un9(-2.56,2.48) Un10(-2.56,1.24) Un11(-2.56,0) Un12(-2.56,-1.24) Un13(-2.56,-2.48) Un14(-2.56,-3.72) Un15(-1.28,3.72) Un16(-1.28,2.48) Un17(-1.28,1.24) Un18(-1.28,0) Un19(-1.28,-1.24) Un20(-1.28,-2.48) Un21(-1.28,-3.72) Un22(0,3.72) Un23(0,2.48) Un24(0,1.24) Un25(0,0) Un26(0,-1.24) Un27(0,-2.48) Un28(0,-3.72) Un29(1.28,3.72) Un30(1.28,2.48) Un31(1.28,1.24) Un32(1.28,0) Un33(1.28,-1.24) Un34(1.28,-2.48) Un35(1.28,-3.72) Un36(2.56,3.72) Un37(2.56,2.48) Un38(2.56,1.24) Un39(2.56,0) Un40(2.56,-1.24) Un41(2.56,-2.48) Un42(2.56,-3.72) Un43(3.84,3.72) Un44(3.84,2.48) Un45(3.84,1.24) Un46(3.84,0) Un47(3.84,-1.24) Un48(3.84,-2.48) Un49(3.84,-3.72)
F.SilkS:
  region: -10.7,9.16 -11.04,9.63 -10.36,9.63
  lines w0.254: -10.11,-9.16 -10.11,-10.11 -9.16,-10.11 ; -10.11,9.16 -10.11,10.11 -9.16,10.11 ; 9.16,-10.11 10.11,-10.11 10.11,-9.16 ; 9.16,10.11 10.11,10.11 10.11,9.16
Top Assembly:
  lines w0.254: -10,-10 10,-10 10,10 -9,10 -10,9 -10,-10
  text "'.Designator'" at -4.047,-0.84 h1
Top Courtyard:
  lines w0.254: -11.65,-9.15 -10.25,-9.15 -10.25,-10.25 -9.15,-10.25 -9.15,-11.65 9.15,-11.65 9.15,-10.25 10.25,-10.25 10.25,-9.15 11.65,-9.15 11.65,9.15 10.25,9.15 10.25,10.25 9.15,10.25 9.15,11.65 -9.15,11.65 -9.15,10.25 -10.25,10.25 -10.25,9.15 -11.65,9.15 -11.65,-9.15
Top Designator:
  text ".Designator" at -7.618,-0.508 h1.52

## EQFP-144-1EP_20x20mm_P0.5mm_EP8.93x8.7mm_ThermalVias [mm]
pads (244):
  rrect25% 1.475x0.3 smd: 1(-10.663,8.75) 2(-10.663,8.25) 3(-10.663,7.75) 4(-10.663,7.25) 5(-10.663,6.75) 6(-10.663,6.25) 7(-10.663,5.75) 8(-10.663,5.25) 9(-10.663,4.75) 10(-10.663,4.25) 11(-10.663,3.75) 12(-10.663,3.25) 13(-10.663,2.75) 14(-10.663,2.25) 15(-10.663,1.75) 16(-10.663,1.25) 17(-10.663,0.75) 18(-10.663,0.25) 19(-10.663,-0.25) 20(-10.663,-0.75) 21(-10.663,-1.25) 22(-10.663,-1.75) 23(-10.663,-2.25) 24(-10.663,-2.75) 25(-10.663,-3.25) 26(-10.663,-3.75) 27(-10.663,-4.25) 28(-10.663,-4.75) 29(-10.663,-5.25) 30(-10.663,-5.75) 31(-10.663,-6.25) 32(-10.663,-6.75) 33(-10.663,-7.25) 34(-10.663,-7.75) 35(-10.663,-8.25) 36(-10.663,-8.75) 73(10.663,-8.75) 74(10.663,-8.25) 75(10.663,-7.75) 76(10.663,-7.25) 77(10.663,-6.75) 78(10.663,-6.25) 79(10.663,-5.75) 80(10.663,-5.25) 81(10.663,-4.75) 82(10.663,-4.25) 83(10.663,-3.75) 84(10.663,-3.25) 85(10.663,-2.75) 86(10.663,-2.25) 87(10.663,-1.75) 88(10.663,-1.25) 89(10.663,-0.75) 90(10.663,-0.25) 91(10.663,0.25) 92(10.663,0.75) 93(10.663,1.25) 94(10.663,1.75) 95(10.663,2.25) 96(10.663,2.75) 97(10.663,3.25) 98(10.663,3.75) 99(10.663,4.25) 100(10.663,4.75) 101(10.663,5.25) 102(10.663,5.75) 103(10.663,6.25) 104(10.663,6.75) 105(10.663,7.25) 106(10.663,7.75) 107(10.663,8.25) 108(10.663,8.75)
  rrect25% 0.3x1.475 smd: 37(-8.75,-10.663) 38(-8.25,-10.663) 39(-7.75,-10.663) 40(-7.25,-10.663) 41(-6.75,-10.663) 42(-6.25,-10.663) 43(-5.75,-10.663) 44(-5.25,-10.663) 45(-4.75,-10.663) 46(-4.25,-10.663) 47(-3.75,-10.663) 48(-3.25,-10.663) 49(-2.75,-10.663) 50(-2.25,-10.663) 51(-1.75,-10.663) 52(-1.25,-10.663) 53(-0.75,-10.663) 54(-0.25,-10.663) 55(0.25,-10.663) 56(0.75,-10.663) 57(1.25,-10.663) 58(1.75,-10.663) 59(2.25,-10.663) 60(2.75,-10.663) 61(3.25,-10.663) 62(3.75,-10.663) 63(4.25,-10.663) 64(4.75,-10.663) 65(5.25,-10.663) 66(5.75,-10.663) 67(6.25,-10.663) 68(6.75,-10.663) 69(7.25,-10.663) 70(7.75,-10.663) 71(8.25,-10.663) 72(8.75,-10.663) 109(8.75,10.663) 110(8.25,10.663) 111(7.75,10.663) 112(7.25,10.663) 113(6.75,10.663) 114(6.25,10.663) 115(5.75,10.663) 116(5.25,10.663) 117(4.75,10.663) 118(4.25,10.663) 119(3.75,10.663) 120(3.25,10.663) 121(2.75,10.663) 122(2.25,10.663) 123(1.75,10.663) 124(1.25,10.663) 125(0.75,10.663) 126(0.25,10.663) 127(-0.25,10.663) 128(-0.75,10.663) 129(-1.25,10.663) 130(-1.75,10.663) 131(-2.25,10.663) 132(-2.75,10.663) 133(-3.25,10.663) 134(-3.75,10.663) 135(-4.25,10.663) 136(-4.75,10.663) 137(-5.25,10.663) 138(-5.75,10.663) 139(-6.25,10.663) 140(-6.75,10.663) 141(-7.25,10.663) 142(-7.75,10.663) 143(-8.25,10.663) 144(-8.75,10.663)
  round 0.5 hole 0.2: 145(-3.6,-3.6) 145(-3.6,-2.4) 145(-3.6,-1.2) 145(-3.6,0) 145(-3.6,1.2) 145(-3.6,2.4) 145(-3.6,3.6) 145(-2.4,-3.6) 145(-2.4,-2.4) 145(-2.4,-1.2) 145(-2.4,0) 145(-2.4,1.2) 145(-2.4,2.4) 145(-2.4,3.6) 145(-1.2,-3.6) 145(-1.2,-2.4) 145(-1.2,-1.2) 145(-1.2,0) 145(-1.2,1.2) 145(-1.2,2.4) 145(-1.2,3.6) 145(0,-3.6) 145(0,-2.4) 145(0,-1.2) 145(0,0) 145(0,1.2) 145(0,2.4) 145(0,3.6) 145(1.2,-3.6) 145(1.2,-2.4) 145(1.2,-1.2) 145(1.2,0) 145(1.2,1.2) 145(1.2,2.4) 145(1.2,3.6) 145(2.4,-3.6) 145(2.4,-2.4) 145(2.4,-1.2) 145(2.4,0) 145(2.4,1.2) 145(2.4,2.4) 145(2.4,3.6) 145(3.6,-3.6) 145(3.6,-2.4) 145(3.6,-1.2) 145(3.6,0) 145(3.6,1.2) 145(3.6,2.4) 145(3.6,3.6)
  rect 8.93x8.7 smd: 145(0,0)
  rect 7.7x7.7 smd far side: 145(0,0)
  rrect25% 1.03x1 on Top Paste: Un1(-3.84,3.72) Un2(-3.84,2.48) Un3(-3.84,1.24) Un4(-3.84,0) Un5(-3.84,-1.24) Un6(-3.84,-2.48) Un7(-3.84,-3.72) Un8(-2.56,3.72) Un9(-2.56,2.48) Un10(-2.56,1.24) Un11(-2.56,0) Un12(-2.56,-1.24) Un13(-2.56,-2.48) Un14(-2.56,-3.72) Un15(-1.28,3.72) Un16(-1.28,2.48) Un17(-1.28,1.24) Un18(-1.28,0) Un19(-1.28,-1.24) Un20(-1.28,-2.48) Un21(-1.28,-3.72) Un22(0,3.72) Un23(0,2.48) Un24(0,1.24) Un25(0,0) Un26(0,-1.24) Un27(0,-2.48) Un28(0,-3.72) Un29(1.28,3.72) Un30(1.28,2.48) Un31(1.28,1.24) Un32(1.28,0) Un33(1.28,-1.24) Un34(1.28,-2.48) Un35(1.28,-3.72) Un36(2.56,3.72) Un37(2.56,2.48) Un38(2.56,1.24) Un39(2.56,0) Un40(2.56,-1.24) Un41(2.56,-2.48) Un42(2.56,-3.72) Un43(3.84,3.72) Un44(3.84,2.48) Un45(3.84,1.24) Un46(3.84,0) Un47(3.84,-1.24) Un48(3.84,-2.48) Un49(3.84,-3.72)
F.SilkS:
  region: -10.7,9.16 -11.04,9.63 -10.36,9.63
  lines w0.254: -10.11,-9.16 -10.11,-10.11 -9.16,-10.11 ; -10.11,9.16 -10.11,10.11 -9.16,10.11 ; 9.16,-10.11 10.11,-10.11 10.11,-9.16 ; 9.16,10.11 10.11,10.11 10.11,9.16
Top Assembly:
  lines w0.254: -10,-10 10,-10 10,10 -9,10 -10,9 -10,-10
  text "'.Designator'" at -4.047,-0.84 h1
Top Courtyard:
  lines w0.254: -11.65,-9.15 -10.25,-9.15 -10.25,-10.25 -9.15,-10.25 -9.15,-11.65 9.15,-11.65 9.15,-10.25 10.25,-10.25 10.25,-9.15 11.65,-9.15 11.65,9.15 10.25,9.15 10.25,10.25 9.15,10.25 9.15,11.65 -9.15,11.65 -9.15,10.25 -10.25,10.25 -10.25,9.15 -11.65,9.15 -11.65,-9.15
Top Designator:
  text ".Designator" at -7.618,-0.508 h1.52

## HTQFP-64-1EP_10x10mm_P0.5mm_EP8x8mm [mm]
pads (69):
  rect 1.5x0.3 smd: 1(-5.7,3.75) 2(-5.7,3.25) 3(-5.7,2.75) 4(-5.7,2.25) 5(-5.7,1.75) 6(-5.7,1.25) 7(-5.7,0.75) 8(-5.7,0.25) 9(-5.7,-0.25) 10(-5.7,-0.75) 11(-5.7,-1.25) 12(-5.7,-1.75) 13(-5.7,-2.25) 14(-5.7,-2.75) 15(-5.7,-3.25) 16(-5.7,-3.75) 33(5.7,-3.75) 34(5.7,-3.25) 35(5.7,-2.75) 36(5.7,-2.25) 37(5.7,-1.75) 38(5.7,-1.25) 39(5.7,-0.75) 40(5.7,-0.25) 41(5.7,0.25) 42(5.7,0.75) 43(5.7,1.25) 44(5.7,1.75) 45(5.7,2.25) 46(5.7,2.75) 47(5.7,3.25) 48(5.7,3.75)
  rect 0.3x1.5 smd: 17(-3.75,-5.7) 18(-3.25,-5.7) 19(-2.75,-5.7) 20(-2.25,-5.7) 21(-1.75,-5.7) 22(-1.25,-5.7) 23(-0.75,-5.7) 24(-0.25,-5.7) 25(0.25,-5.7) 26(0.75,-5.7) 27(1.25,-5.7) 28(1.75,-5.7) 29(2.25,-5.7) 30(2.75,-5.7) 31(3.25,-5.7) 32(3.75,-5.7) 49(3.75,5.7) 50(3.25,5.7) 51(2.75,5.7) 52(2.25,5.7) 53(1.75,5.7) 54(1.25,5.7) 55(0.75,5.7) 56(0.25,5.7) 57(-0.25,5.7) 58(-0.75,5.7) 59(-1.25,5.7) 60(-1.75,5.7) 61(-2.25,5.7) 62(-2.75,5.7) 63(-3.25,5.7) 64(-3.75,5.7)
  rect 8x8 smd: 65(0,0)
  rect 3.2x3.2 on Top Paste: Un1(-2,2) Un2(-2,-2) Un3(2,2) Un4(2,-2)
F.SilkS:
  region: -5.81,4.17 -6.15,4.64 -5.47,4.64
  lines w0.254: -5.175,-4.125 -5.175,-5.175 -4.125,-5.175 ; -5.175,4.225 -5.175,5.175 -4.125,5.175 ; 4.125,-5.175 5.175,-5.175 5.175,-4.125 ; 4.125,5.175 5.175,5.175 5.175,4.125
Top Assembly:
  lines w0.254: -5,-5 5,-5 5,5 -4,5 -5,4 -5,-5
  text "'.Designator'" at -4.047,-0.84 h1
Top Courtyard:
  lines w0.254: -6.7,-6.7 6.7,-6.7 6.7,6.7 -6.7,6.7 -6.7,-6.7
Top Designator:
  text ".Designator" at -7.618,-0.508 h1.52

## HTQFP-64-1EP_10x10mm_P0.5mm_EP8x8mm_Mask4.4x4.4mm_ThermalVias [mm]
pads (135):
  rect 1.5x0.3 smd: 1(-5.7,3.75) 2(-5.7,3.25) 3(-5.7,2.75) 4(-5.7,2.25) 5(-5.7,1.75) 6(-5.7,1.25) 7(-5.7,0.75) 8(-5.7,0.25) 9(-5.7,-0.25) 10(-5.7,-0.75) 11(-5.7,-1.25) 12(-5.7,-1.75) 13(-5.7,-2.25) 14(-5.7,-2.75) 15(-5.7,-3.25) 16(-5.7,-3.75) 33(5.7,-3.75) 34(5.7,-3.25) 35(5.7,-2.75) 36(5.7,-2.25) 37(5.7,-1.75) 38(5.7,-1.25) 39(5.7,-0.75) 40(5.7,-0.25) 41(5.7,0.25) 42(5.7,0.75) 43(5.7,1.25) 44(5.7,1.75) 45(5.7,2.25) 46(5.7,2.75) 47(5.7,3.25) 48(5.7,3.75)
  rect 0.3x1.5 smd: 17(-3.75,-5.7) 18(-3.25,-5.7) 19(-2.75,-5.7) 20(-2.25,-5.7) 21(-1.75,-5.7) 22(-1.25,-5.7) 23(-0.75,-5.7) 24(-0.25,-5.7) 25(0.25,-5.7) 26(0.75,-5.7) 27(1.25,-5.7) 28(1.75,-5.7) 29(2.25,-5.7) 30(2.75,-5.7) 31(3.25,-5.7) 32(3.75,-5.7) 49(3.75,5.7) 50(3.25,5.7) 51(2.75,5.7) 52(2.25,5.7) 53(1.75,5.7) 54(1.25,5.7) 55(0.75,5.7) 56(0.25,5.7) 57(-0.25,5.7) 58(-0.75,5.7) 59(-1.25,5.7) 60(-1.75,5.7) 61(-2.25,5.7) 62(-2.75,5.7) 63(-3.25,5.7) 64(-3.75,5.7)
  round 0.5 hole 0.2: 65(-3.5,-3.5) 65(-3.5,-2.5) 65(-3.5,-1.5) 65(-3.5,-0.5) 65(-3.5,0.5) 65(-3.5,1.5) 65(-3.5,2.5) 65(-3.5,3.5) 65(-2.5,-3.5) 65(-2.5,-2.5) 65(-2.5,-1.5) 65(-2.5,-0.5) 65(-2.5,0.5) 65(-2.5,1.5) 65(-2.5,2.5) 65(-2.5,3.5) 65(-1.5,-3.5) 65(-1.5,-2.5) 65(-1.5,-1.5) 65(-1.5,-0.5) 65(-1.5,0.5) 65(-1.5,1.5) 65(-1.5,2.5) 65(-1.5,3.5) 65(-0.5,-3.5) 65(-0.5,-2.5) 65(-0.5,-1.5) 65(-0.5,-0.5) 65(-0.5,0.5) 65(-0.5,1.5) 65(-0.5,2.5) 65(-0.5,3.5) 65(0.5,-3.5) 65(0.5,-2.5) 65(0.5,-1.5) 65(0.5,-0.5) 65(0.5,0.5) 65(0.5,1.5) 65(0.5,2.5) 65(0.5,3.5) 65(1.5,-3.5) 65(1.5,-2.5) 65(1.5,-1.5) 65(1.5,-0.5) 65(1.5,0.5) 65(1.5,1.5) 65(1.5,2.5) 65(1.5,3.5) 65(2.5,-3.5) 65(2.5,-2.5) 65(2.5,-1.5) 65(2.5,-0.5) 65(2.5,0.5) 65(2.5,1.5) 65(2.5,2.5) 65(2.5,3.5) 65(3.5,-3.5) 65(3.5,-2.5) 65(3.5,-1.5) 65(3.5,-0.5) 65(3.5,0.5) 65(3.5,1.5) 65(3.5,2.5) 65(3.5,3.5)
  rect 8x8 smd: 65(0,0)
  rect 8x8 smd far side: 65(0,0)
  rect 1.75x1.75 on Top Paste: Un1(-1.1,1.1) Un2(-1.1,-1.1) Un4(1.1,1.1) Un5(1.1,-1.1)
  rect 4.4x4.4 on Top Solder: Un3(0,0)
F.SilkS:
  region: -5.77,4.17 -6.11,4.64 -5.43,4.64
  lines w0.254: -5.175,-4.125 -5.175,-5.175 -4.125,-5.175 ; -5.175,4.225 -5.175,5.175 -4.125,5.175 ; 4.125,-5.175 5.175,-5.175 5.175,-4.125 ; 4.125,5.175 5.175,5.175 5.175,4.125
Top Assembly:
  lines w0.254: -5,-5 5,-5 5,5 -4,5 -5,4 -5,-5
  text "'.Designator'" at -4.047,-0.84 h1
Top Courtyard:
  lines w0.254: -6.7,-6.7 6.7,-6.7 6.7,6.7 -6.7,6.7 -6.7,-6.7
Top Designator:
  text ".Designator" at -7.618,-0.508 h1.52

## LQFP-32_5x5mm_P0.5mm [mm]
pads (32):
  rrect25% 1.5x0.3 smd: 1(-3.175,1.75) 2(-3.175,1.25) 3(-3.175,0.75) 4(-3.175,0.25) 5(-3.175,-0.25) 6(-3.175,-0.75) 7(-3.175,-1.25) 8(-3.175,-1.75) 17(3.175,-1.75) 18(3.175,-1.25) 19(3.175,-0.75) 20(3.175,-0.25) 21(3.175,0.25) 22(3.175,0.75) 23(3.175,1.25) 24(3.175,1.75)
  rrect25% 0.3x1.5 smd: 9(-1.75,-3.175) 10(-1.25,-3.175) 11(-0.75,-3.175) 12(-0.25,-3.175) 13(0.25,-3.175) 14(0.75,-3.175) 15(1.25,-3.175) 16(1.75,-3.175) 25(1.75,3.175) 26(1.25,3.175) 27(0.75,3.175) 28(0.25,3.175) 29(-0.25,3.175) 30(-0.75,3.175) 31(-1.25,3.175) 32(-1.75,3.175)
F.SilkS:
  region: -3.213,2.16 -3.552,2.63 -2.873,2.63
  lines w0.254: -2.61,-2.16 -2.61,-2.61 -2.16,-2.61 ; -2.61,2.16 -2.61,2.61 -2.16,2.61 ; 2.16,-2.61 2.61,-2.61 2.61,-2.16 ; 2.16,2.61 2.61,2.61 2.61,2.16
Top Assembly:
  lines w0.254: -2.5,-2.5 2.5,-2.5 2.5,2.5 -1.5,2.5 -2.5,1.5 -2.5,-2.5
  text "'.Designator'" at -4.047,-0.84 h1
Top Courtyard:
  lines w0.254: -4.18,-2.15 -2.75,-2.15 -2.75,-2.75 -2.15,-2.75 -2.15,-4.18 2.15,-4.18 2.15,-2.75 2.75,-2.75 2.75,-2.15 4.18,-2.15 4.18,2.15 2.75,2.15 2.75,2.75 2.15,2.75 2.15,4.18 -2.15,4.18 -2.15,2.75 -2.75,2.75 -2.75,2.15 -4.18,2.15 -4.18,-2.15
Top Designator:
  text ".Designator" at -7.618,-0.508 h1.52

## LQFP-32_7x7mm_P0.8mm [mm]
pads (32):
  rrect25% 1.5x0.5 smd: 1(-4.175,2.8) 2(-4.175,2) 3(-4.175,1.2) 4(-4.175,0.4) 5(-4.175,-0.4) 6(-4.175,-1.2) 7(-4.175,-2) 8(-4.175,-2.8) 17(4.175,-2.8) 18(4.175,-2) 19(4.175,-1.2) 20(4.175,-0.4) 21(4.175,0.4) 22(4.175,1.2) 23(4.175,2) 24(4.175,2.8)
  rrect25% 0.5x1.5 smd: 9(-2.8,-4.175) 10(-2,-4.175) 11(-1.2,-4.175) 12(-0.4,-4.175) 13(0.4,-4.175) 14(1.2,-4.175) 15(2,-4.175) 16(2.8,-4.175) 25(2.8,4.175) 26(2,4.175) 27(1.2,4.175) 28(0.4,4.175) 29(-0.4,4.175) 30(-1.2,4.175) 31(-2,4.175) 32(-2.8,4.175)
F.SilkS:
  region: -4.213,3.31 -4.553,3.78 -3.872,3.78
  lines w0.254: -3.61,-3.31 -3.61,-3.61 -3.31,-3.61 ; -3.61,3.31 -3.61,3.61 -3.31,3.61 ; 3.31,-3.61 3.61,-3.61 3.61,-3.31 ; 3.31,3.61 3.61,3.61 3.61,3.31
Top Assembly:
  lines w0.254: -3.5,-3.5 3.5,-3.5 3.5,3.5 -2.5,3.5 -3.5,2.5 -3.5,-3.5
  text "'.Designator'" at -4.047,-0.84 h1
Top Courtyard:
  lines w0.254: -5.18,-3.3 -3.75,-3.3 -3.75,-3.75 -3.3,-3.75 -3.3,-5.18 3.3,-5.18 3.3,-3.75 3.75,-3.75 3.75,-3.3 5.18,-3.3 5.18,3.3 3.75,3.3 3.75,3.75 3.3,3.75 3.3,5.18 -3.3,5.18 -3.3,3.75 -3.75,3.75 -3.75,3.3 -5.18,3.3 -5.18,-3.3
Top Designator:
  text ".Designator" at -7.618,-0.508 h1.52

## LQFP-36_7x7mm_P0.65mm [mm]
pads (36):
  rrect25% 1.475x0.4 smd: 1(-4.213,2.6) 2(-4.213,1.95) 3(-4.213,1.3) 4(-4.213,0.65) 5(-4.213,0) 6(-4.213,-0.65) 7(-4.213,-1.3) 8(-4.213,-1.95) 9(-4.213,-2.6) 19(4.213,-2.6) 20(4.213,-1.95) 21(4.213,-1.3) 22(4.213,-0.65) 23(4.213,0) 24(4.213,0.65) 25(4.213,1.3) 26(4.213,1.95) 27(4.213,2.6)
  rrect25% 0.4x1.475 smd: 10(-2.6,-4.213) 11(-1.95,-4.213) 12(-1.3,-4.213) 13(-0.65,-4.213) 14(0,-4.213) 15(0.65,-4.213) 16(1.3,-4.213) 17(1.95,-4.213) 18(2.6,-4.213) 28(2.6,4.213) 29(1.95,4.213) 30(1.3,4.213) 31(0.65,4.213) 32(0,4.213) 33(-0.65,4.213) 34(-1.3,4.213) 35(-1.95,4.213) 36(-2.6,4.213)
F.SilkS:
  region: -4.225,3.06 -4.565,3.53 -3.885,3.53
  lines w0.254: -3.61,-3.06 -3.61,-3.61 -3.06,-3.61 ; -3.61,3.06 -3.61,3.61 -3.06,3.61 ; 3.06,-3.61 3.61,-3.61 3.61,-3.06 ; 3.06,3.61 3.61,3.61 3.61,3.06
Top Assembly:
  lines w0.254: -3.5,-3.5 3.5,-3.5 3.5,3.5 -2.5,3.5 -3.5,2.5 -3.5,-3.5
  text "'.Designator'" at -4.047,-0.84 h1
Top Courtyard:
  lines w0.254: -5.2,-3.05 -3.75,-3.05 -3.75,-3.75 -3.05,-3.75 -3.05,-5.2 3.05,-5.2 3.05,-3.75 3.75,-3.75 3.75,-3.05 5.2,-3.05 5.2,3.05 3.75,3.05 3.75,3.75 3.05,3.75 3.05,5.2 -3.05,5.2 -3.05,3.75 -3.75,3.75 -3.75,3.05 -5.2,3.05 -5.2,-3.05
Top Designator:
  text ".Designator" at -7.618,-0.508 h1.52

## LQFP-44_10x10mm_P0.8mm [mm]
pads (44):
  rrect25% 1.475x0.55 smd: 1(-5.663,4) 2(-5.663,3.2) 3(-5.663,2.4) 4(-5.663,1.6) 5(-5.663,0.8) 6(-5.663,0) 7(-5.663,-0.8) 8(-5.663,-1.6) 9(-5.663,-2.4) 10(-5.663,-3.2) 11(-5.663,-4) 23(5.663,-4) 24(5.663,-3.2) 25(5.663,-2.4) 26(5.663,-1.6) 27(5.663,-0.8) 28(5.663,0) 29(5.663,0.8) 30(5.663,1.6) 31(5.663,2.4) 32(5.663,3.2) 33(5.663,4)
  rrect25% 0.55x1.475 smd: 12(-4,-5.663) 13(-3.2,-5.663) 14(-2.4,-5.663) 15(-1.6,-5.663) 16(-0.8,-5.663) 17(0,-5.663) 18(0.8,-5.663) 19(1.6,-5.663) 20(2.4,-5.663) 21(3.2,-5.663) 22(4,-5.663) 34(4,5.663) 35(3.2,5.663) 36(2.4,5.663) 37(1.6,5.663) 38(0.8,5.663) 39(0,5.663) 40(-0.8,5.663) 41(-1.6,5.663) 42(-2.4,5.663) 43(-3.2,5.663) 44(-4,5.663)
F.SilkS:
  region: -5.7,4.535 -6.04,5.005 -5.36,5.005
  lines w0.254: -5.11,-4.535 -5.11,-5.11 -4.535,-5.11 ; -5.11,4.535 -5.11,5.11 -4.535,5.11 ; 4.535,-5.11 5.11,-5.11 5.11,-4.535 ; 4.535,5.11 5.11,5.11 5.11,4.535
Top Assembly:
  lines w0.254: -5,-5 5,-5 5,5 -4,5 -5,4 -5,-5
  text "'.Designator'" at -4.047,-0.84 h1
Top Courtyard:
  lines w0.254: -6.65,-4.53 -5.25,-4.53 -5.25,-5.25 -4.53,-5.25 -4.53,-6.65 4.53,-6.65 4.53,-5.25 5.25,-5.25 5.25,-4.53 6.65,-4.53 6.65,4.53 5.25,4.53 5.25,5.25 4.53,5.25 4.53,6.65 -4.53,6.65 -4.53,5.25 -5.25,5.25 -5.25,4.53 -6.65,4.53 -6.65,-4.53
Top Designator:
  text ".Designator" at -7.618,-0.508 h1.52